# Altium schematic symbol library SDM30-12S5.SchLib: 1 symbol
Pins are listed as number, name and electrical type; pins without a type are passive.

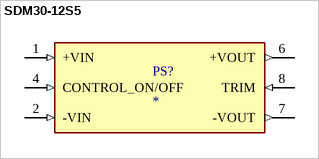
[diagram p0: symbol SDM30-12S5]

## SDM30-12S5
designator PS?
Isolated Module DC DC Converter 1 Output 5V 5A 9.2V - 18V Input; MP: SDM30-12S5; MF: MEAN WELL; Value: *; SnapEDA_Link: https://www.snapeda.com/parts/SDM30-12S5/MEAN%20WELL%20USA%20Inc./view-part/9848/?ref=snap; Check_prices: https://www.snapeda.com/parts/SDM30-12S5/MEAN%20WELL%20USA%20Inc./view-part/9848/?ref=eda; Package: DIP-8 Mean Well; Digi-Key_Part_Number: 1866-4448-ND; Purchase-URL: https://pricing.snapeda.com/search/part/SDM30-12S5/?ref=eda
footprint CONV_SDM30-12S5
pins: 1 +VIN (in), 2 -VIN (in), 4 CONTROL_ON/OFF (in), 6 +VOUT (out), 7 -VOUT (out), 8 TRIM (in)